# Altium schematic symbol library Components - fuse.SchLib: 1 symbol
Pins are listed as number, name and electrical type; pins without a type are passive.

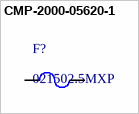
[diagram p0: symbol CMP-2000-05620-1]

## CMP-2000-05620-1
designator F?, comment 021502.5MXP
Time-Lag Type Cartridge Fuse, 2.5 A, 0.00386 Ohm, 250 V, -55 to 125 degC, 2-Pin SMD, RoHS, Bulk; Manufacturer: Littelfuse; Working Voltage-Max: 250V; Response Characteristic: TimeLag; Current Rating: 2.5A; Datasheet Version: 05/2016; Datasheet URL: http://www.littelfuse.com/~/media/electronics/datasheets/fuses/littelfuse_fuse_215_datasheet.pdf.pdf; Package Description: 2-Pin Surface Mount Device, Body 20 x 5.15 mm; Package Reference: 0215-20X5; Operating Temp Range: -55to+125°C; Size: 5x20mm; Manufacturer URL: http://www.littelfuse.com/; Mounting Technology: SurfaceMount
footprint LFUS-0215-20X5_L (MELF Resistor, 2-Leads, Body 20.5x5.3mm, IPC High Density)
footprint LFUS-0215-20X5_M (MELF Resistor, 2-Leads, Body 20.5x5.3mm, IPC Low Density)
footprint LFUS-0215-20X5_N (MELF Resistor, 2-Leads, Body 20.5x5.3mm, IPC Medium Density)
pins: 1, 2